# Altium schematic symbol library DIODE SCHOTTKY 40V 5A.SchLib: 1 symbol
Pins are listed as number, name and electrical type; pins without a type are passive.

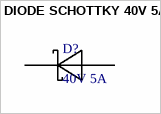
[diagram p0: symbol DIODE SCHOTTKY 40V 5A]

## DIODE SCHOTTKY 40V 5A
designator D?, comment 40V 5A
SS54
pins: A, C K